# Altium footprint library Relay_Pcb.PcbLib: 2 footprints
Each footprint in its own frame and in the unit in brackets; x right, y up, seen from the top. Pads: shape width x height; smd on the part's side, far side on the other; paste and mask are expansions set on the pad; w line width, h text height; cw(c..) or ccw(c..) is an arc to the next point about the centre after c.
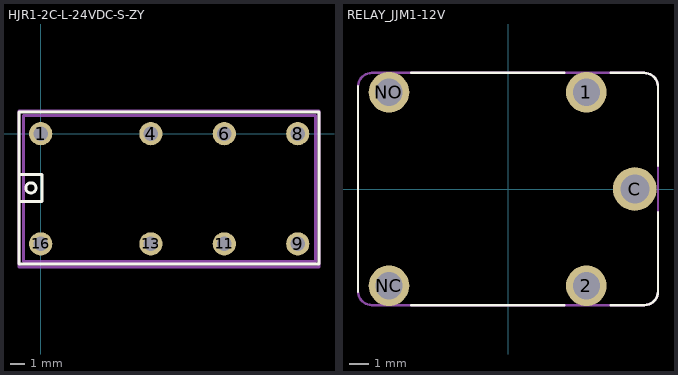
[diagram p0: the footprints below, top view; thin cyan lines are the x and y axes]

## HJR1-2C-L-24VDC-S-ZY [mm]
pads (8):
  round 1.6 hole 1 paste+0 mask+0.1: 1(0,0) 4(7.62,0) 6(12.7,0) 8(17.78,0) 9(17.78,-7.62) 11(12.7,-7.62) 13(7.62,-7.62) 16(0,-7.62)
Top Overlay:
  circle w0.2: c-0.675,-3.75 r0.354
  lines w0.2: -1.5,-4.7 0.1,-4.7 0.1,-2.825 -1.5,-2.825 ; -1.5,-9 -1.5,1.5 19.25,1.5 19.25,-9 -1.5,-9
Mechanical 13:
  lines w0.2: -1.2,-8.85 19,-8.85 19,1.25 -1.2,1.25 -1.2,-8.85
  text "'.designator'" at -0.35,-7.799 h2
Mechanical 15:
  lines w0.2: -1.5,-9.225 -1.5,1.575 19.25,1.575 19.25,-9.225 -1.5,-9.225
3D body "Relay 20x10 8p DPDT.step": height 9.32, standoff -1.99, extent -1.1,-8.8 18.9,1.2

## RELAY_JJM1-12V [mm]
pads (5):
  round 2.1 hole 1.4: 1(4.05,5) 2(4.05,-5) NC(-6.15,-5) NO(-6.15,5)
  round 2.25 hole 1.5: C(6.55,0)
Top Overlay:
  lines w0.127: -7.75,-5.3 -7.75,5.3 ; -5,-6 2.9,-6 ; -5,6 2.9,6 ; 5.3,-6 7.05,-6 ; 5.3,6 7.05,6 ; 7.04,6 cw(c7.04,5.29) 7.75,5.29 ; 7.052,-6 ccw(c7.039,-5.29) 7.75,-5.29 ; 7.75,-5.25 7.75,-1.2 ; 7.75,1.2 7.75,5.25
Mechanical 29:
  lines w0.127: 7.04,-6 -7.04,-6 cw(c-7.04,-5.29) -7.75,-5.29 -7.75,5.29 cw(c-7.04,5.29) -7.04,6 7.04,6 cw(c7.04,5.29) 7.75,5.29 7.75,-5.29 ; 7.052,-6 ccw(c7.039,-5.29) 7.75,-5.29
3D body "JJM1-12V--3DModel-STEP-56544.STEP": height 13.51, standoff -3.89, extent -7.75,-6 7.75,6